# EAGLE library part DIP-SCREW-TERMINAL-XH2.54-WHITE(6P-2.54) (library Seeed-OPL-Connector)
320110039
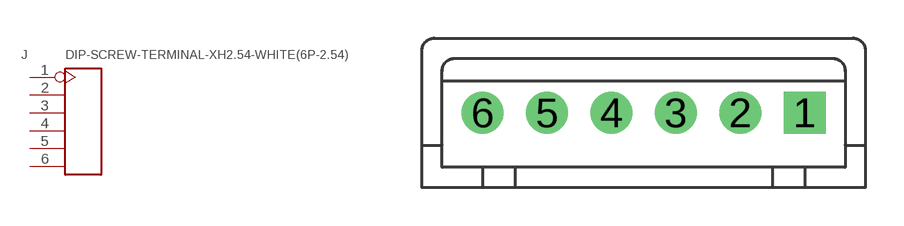
[diagram p93: symbol with the pads of HW6-2.54-12.5X5.9MM; footprint HW6-2.54-12.5X5.9MM]

Designator prefix J

## DIP-SCREW-TERMINAL-XH2.54-WHITE(6P-2.54) (MPN: XH-2.5-6P; VALUE: 6p-2.54)  [HW6-2.54-12.5X5.9MM]
1  1
2  2
3  3
4  4
5  5
6  6

## Footprint HW6-2.54-12.5X5.9MM (pad centres in mm)
drill 0.813 pad 1.651 square: 1 6.35,0
drill 0.813 pad 1.651: 2 3.81,0; 3 1.27,0; 4 -1.27,0; 5 -3.81,0; 6 -6.35,0